# Altium footprint library ATMEGA328P-AU.PcbLib: 1 footprints
Each footprint in its own frame and in the unit in brackets; x right, y up, seen from the top. Pads: shape width x height; smd on the part's side, far side on the other; paste and mask are expansions set on the pad; w line width, h text height; cw(c..) or ccw(c..) is an arc to the next point about the centre after c.
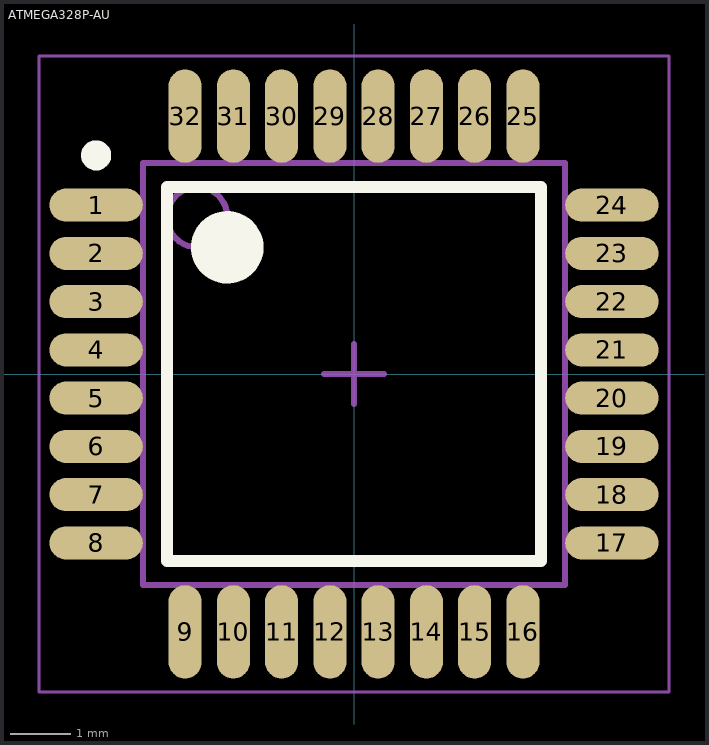
[diagram p0: the footprint, top view; thin cyan lines are the x and y axes]

## ATMEGA328P-AU [mm] "TQFP, 32-Leads, Body 7.00x7.00mm, Pitch 0.80mm, IPC Medium Density"
height 1.2
pads (32):
  oval 1.55x0.55 smd: 1(-4.275,2.8) 2(-4.275,2) 3(-4.275,1.2) 4(-4.275,0.4) 5(-4.275,-0.4) 6(-4.275,-1.2) 7(-4.275,-2) 8(-4.275,-2.8) 17(4.275,-2.8) 18(4.275,-2) 19(4.275,-1.2) 20(4.275,-0.4) 21(4.275,0.4) 22(4.275,1.2) 23(4.275,2) 24(4.275,2.8)
  oval 0.55x1.55 smd: 9(-2.8,-4.275) 10(-2,-4.275) 11(-1.2,-4.275) 12(-0.4,-4.275) 13(0.4,-4.275) 14(1.2,-4.275) 15(2,-4.275) 16(2.8,-4.275) 25(2.8,4.275) 26(2,4.275) 27(1.2,4.275) 28(0.4,4.275) 29(-0.4,4.275) 30(-1.2,4.275) 31(-2,4.275) 32(-2.8,4.275)
Top Overlay:
  circle w0.6: c-2.1,2.1 r0.3
  circle w0.25: c-4.275,3.625 r0.125
  lines w0.2: -3.1,-3.1 3.1,-3.1 3.1,3.1 -3.1,3.1 -3.1,-3.1
Mechanical 13:
  circle w0.1: c-2.6,2.6 r0.5
  lines w0.1: -3.5,-3.5 3.5,-3.5 3.5,3.5 -3.5,3.5 -3.5,-3.5
Mechanical 15:
  lines w0.05: -5.225,-5.275 5.225,-5.275 5.225,5.275 -5.225,5.275 -5.225,-5.275
  lines w0.1: -0.5,0 0.5,0 ; 0,-0.5 0,0.5
3D body "ATMEGA328P-AU.step": height 1.2, standoff 0, extent -4.5,-4.625 4.5,4.625